# EAGLE library part STM32F4-176_PIN (library p.peter-ics)
STM32F417 Basic layout
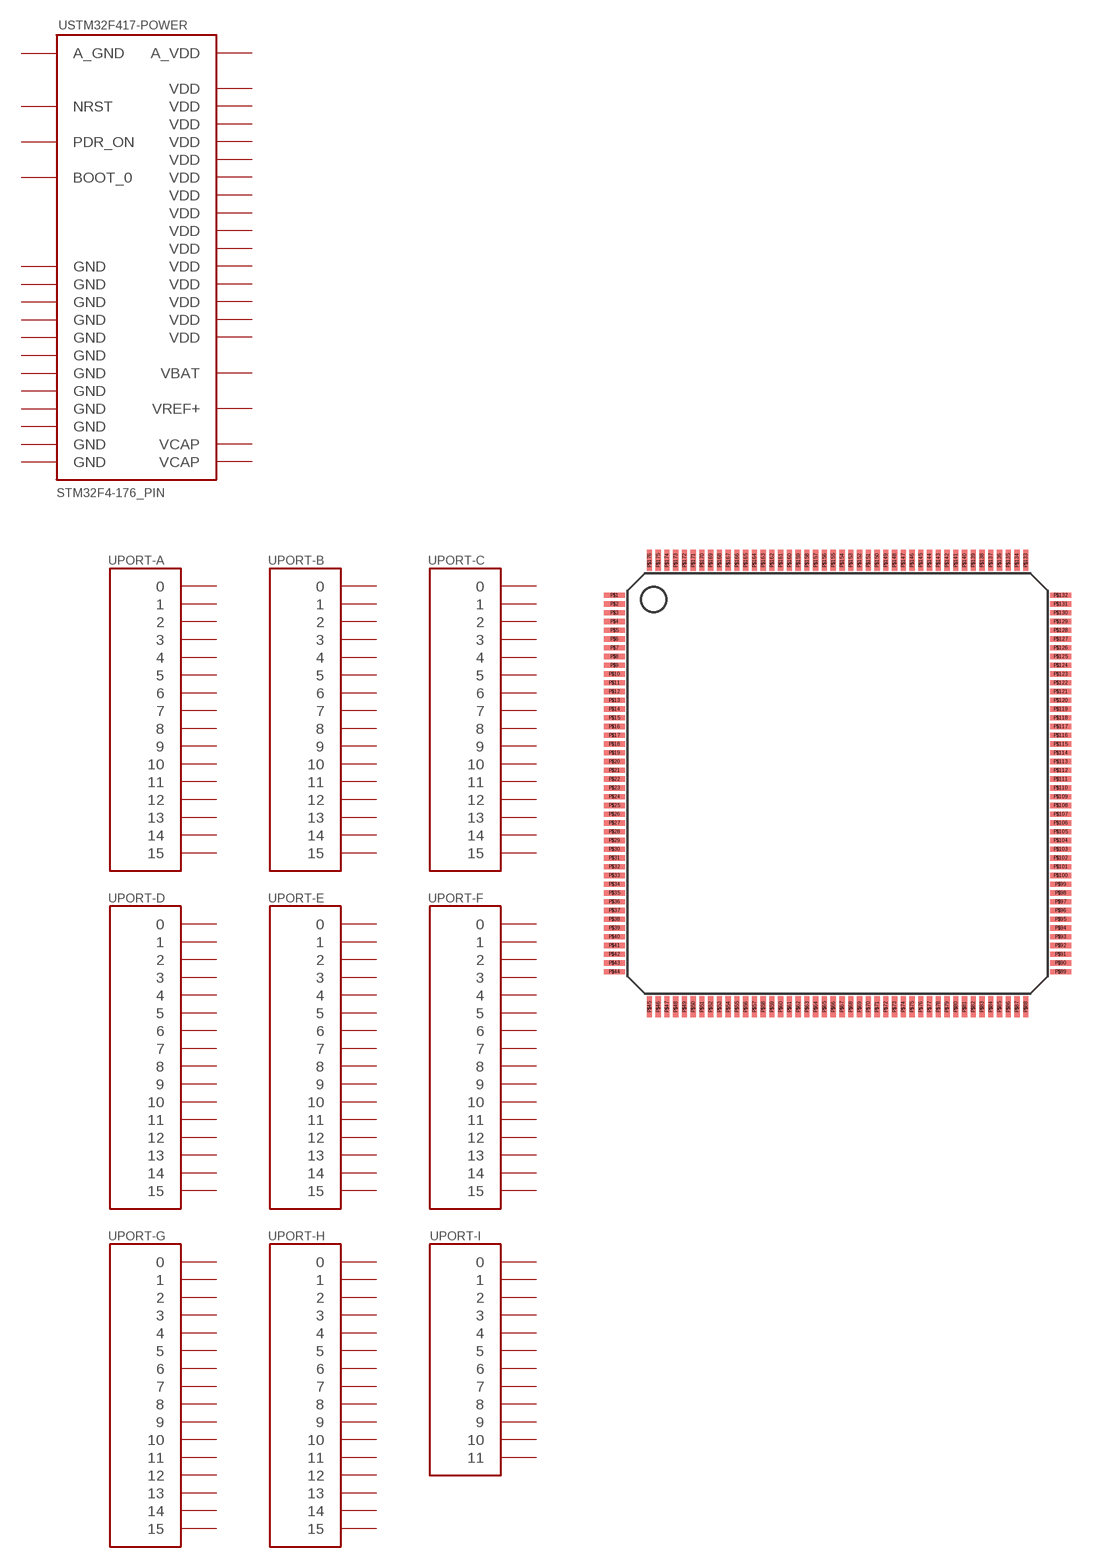
[diagram p3: symbol with the pads of LQFP176; footprint LQFP176]

Designator prefix -; gates STM32F417-POWER=STM32F417-POWER-DEPRECATED PORT-A=STM32-PORT PORT-B=STM32-PORT PORT-C=STM32-PORT PORT-D=STM32-PORT PORT-E=STM32-PORT PORT-F=STM32-PORT PORT-G=STM32-PORT PORT-H=STM32-PORT PORT-I=STM32-PORT_12

## STM32F4-176_PINLQFP176  [LQFP176]
P$1  PORT-E:2
P$2  PORT-E:3
P$3  PORT-E:4
P$4  PORT-E:5
P$5  PORT-E:6
P$6  STM32F417-POWER:VBAT  pwr
P$7  PORT-I:8
P$8  PORT-C:13
P$9  PORT-C:14
P$10  PORT-C:15
P$11  PORT-I:9
P$12  PORT-I:10
P$13  PORT-I:11
P$14  STM32F417-POWER:GND  pwr
P$15  STM32F417-POWER:VDD  pwr
P$16  PORT-F:0
P$17  PORT-F:1
P$18  PORT-F:2
P$19  PORT-F:3
P$20  PORT-F:4
P$21  PORT-F:5
P$22  STM32F417-POWER:GND  pwr
P$23  STM32F417-POWER:VDD  pwr
P$24  PORT-F:6
P$25  PORT-F:7
P$26  PORT-F:8
P$27  PORT-F:9
P$28  PORT-F:10
P$29  PORT-H:0
P$30  PORT-H:1
P$31  STM32F417-POWER:NRST
P$32  PORT-C:0
P$33  PORT-C:1
P$34  PORT-C:2
P$35  PORT-C:3
P$36  STM32F417-POWER:VDD  pwr
P$37  STM32F417-POWER:A_GND  pwr
P$38  STM32F417-POWER:VREF+  pwr
P$39  STM32F417-POWER:A_VDD  pwr
P$40  PORT-A:0
P$41  PORT-A:1
P$42  PORT-A:2
P$43  PORT-H:2
P$44  PORT-H:3
P$45  PORT-H:4
P$46  PORT-H:5
P$47  PORT-A:3
P$48  STM32F417-POWER:GND  pwr
P$49  STM32F417-POWER:VDD  pwr
P$50  PORT-A:4
P$51  PORT-A:5
P$52  PORT-A:6
P$53  PORT-A:7
P$54  PORT-C:4
P$55  PORT-C:5
P$56  PORT-B:0
P$57  PORT-B:1
P$58  PORT-B:2
P$59  PORT-F:11
P$60  PORT-F:12
P$61  STM32F417-POWER:GND  pwr
P$62  STM32F417-POWER:VDD  pwr
P$63  PORT-F:13
P$64  PORT-F:14
P$65  PORT-F:15
P$66  PORT-G:0
P$67  PORT-G:1
P$68  PORT-E:7
P$69  PORT-E:8
P$70  PORT-E:9
P$71  STM32F417-POWER:GND  pwr
P$72  STM32F417-POWER:VDD  pwr
P$73  PORT-E:10
P$74  PORT-E:11
P$75  PORT-E:12
P$76  PORT-E:13
P$77  PORT-E:14
P$78  PORT-E:15
P$79  PORT-B:10
P$80  PORT-B:11
P$81  STM32F417-POWER:VCAP  pwr
P$82  STM32F417-POWER:VDD  pwr
P$83  PORT-H:6
P$84  PORT-H:7
P$85  PORT-H:8
P$86  PORT-H:9
P$87  PORT-H:10
P$88  PORT-H:11
P$89  PORT-H:12
P$90  STM32F417-POWER:GND  pwr
P$91  STM32F417-POWER:VDD  pwr
P$92  PORT-B:12
P$93  PORT-B:13
P$94  PORT-B:14
P$95  PORT-B:15
P$96  PORT-D:8
P$97  PORT-D:9
P$98  PORT-D:10
P$99  PORT-D:11
P$100  PORT-D:12
P$101  PORT-D:13
P$102  STM32F417-POWER:GND  pwr
P$103  STM32F417-POWER:VDD  pwr
P$104  PORT-D:14
P$105  PORT-D:15
P$106  PORT-G:2
P$107  PORT-G:3
P$108  PORT-G:4
P$109  PORT-G:5
P$110  PORT-G:6
P$111  PORT-G:7
P$112  PORT-G:8
P$113  STM32F417-POWER:GND  pwr
P$114  STM32F417-POWER:VDD  pwr
P$115  PORT-C:6
P$116  PORT-C:7
P$117  PORT-C:8
P$118  PORT-C:9
P$119  PORT-A:8
P$120  PORT-A:9
P$121  PORT-A:10
P$122  PORT-A:11
P$123  PORT-A:12
P$124  PORT-A:13
P$125  STM32F417-POWER:VCAP  pwr
P$126  STM32F417-POWER:GND  pwr
P$127  STM32F417-POWER:VDD  pwr
P$128  PORT-H:13
P$129  PORT-H:14
P$130  PORT-H:15
P$131  PORT-I:0
P$132  PORT-I:1
P$133  PORT-I:2
P$134  PORT-I:3
P$135  STM32F417-POWER:GND  pwr
P$136  STM32F417-POWER:VDD  pwr
P$137  PORT-A:14
P$138  PORT-A:15
P$139  PORT-C:10
P$140  PORT-C:11
P$141  PORT-C:12
P$142  PORT-D:0
P$143  PORT-D:1
P$144  PORT-D:2
P$145  PORT-D:3
P$146  PORT-D:4
P$147  PORT-D:5
P$148  STM32F417-POWER:GND  pwr
P$149  STM32F417-POWER:VDD  pwr
P$150  PORT-D:6
P$151  PORT-D:7
P$152  PORT-G:9
P$153  PORT-G:10
P$154  PORT-G:11
P$155  PORT-G:12
P$156  PORT-G:13
P$157  PORT-G:14
P$158  STM32F417-POWER:GND  pwr
P$159  STM32F417-POWER:VDD  pwr
P$160  PORT-G:15
P$161  PORT-B:3
P$162  PORT-B:4
P$163  PORT-B:5
P$164  PORT-B:6
P$165  PORT-B:7
P$166  STM32F417-POWER:BOOT_0
P$167  PORT-B:8
P$168  PORT-B:9
P$169  PORT-E:0
P$170  PORT-E:1
P$171  STM32F417-POWER:PDR_ON
P$172  STM32F417-POWER:VDD  pwr
P$173  PORT-I:4
P$174  PORT-I:5
P$175  PORT-I:6
P$176  PORT-I:7

## Footprint LQFP176 (pad centres in mm)
Standard LQFP176 footprint from STM32F417 Datasheet
smd 1.2 x 0.3: P$1 -12.75,10.75; P$2 -12.75,10.25; P$3 -12.75,9.75; P$4 -12.75,9.25; P$5 -12.75,8.75; P$6 -12.75,8.25; P$7 -12.75,7.75; P$8 -12.75,7.25; P$9 -12.75,6.75; P$10 -12.75,6.25; P$11 -12.75,5.75; P$12 -12.75,5.25; P$13 -12.75,4.75; P$14 -12.75,4.25; P$15 -12.75,3.75; P$16 -12.75,3.25; P$17 -12.75,2.75; P$18 -12.75,2.25; P$19 -12.75,1.75; P$20 -12.75,1.25; P$21 -12.75,0.75; P$22 -12.75,0.25; P$23 -12.75,-0.25; P$24 -12.75,-0.75; P$25 -12.75,-1.25; P$26 -12.75,-1.75; P$27 -12.75,-2.25; P$28 -12.75,-2.75; P$29 -12.75,-3.25; P$30 -12.75,-3.75; P$31 -12.75,-4.25; P$32 -12.75,-4.75; P$33 -12.75,-5.25; P$34 -12.75,-5.75; P$35 -12.75,-6.25; P$36 -12.75,-6.75; P$37 -12.75,-7.25; P$38 -12.75,-7.75; P$39 -12.75,-8.25; P$40 -12.75,-8.75; P$41 -12.75,-9.25; P$42 -12.75,-9.75; P$43 -12.75,-10.25; P$44 -12.75,-10.75; P$89 12.75,-10.75; P$90 12.75,-10.25; P$91 12.75,-9.75; P$92 12.75,-9.25; P$93 12.75,-8.75; P$94 12.75,-8.25; P$95 12.75,-7.75; P$96 12.75,-7.25; P$97 12.75,-6.75; P$98 12.75,-6.25; P$99 12.75,-5.75; P$100 12.75,-5.25; P$101 12.75,-4.75; P$102 12.75,-4.25; P$103 12.75,-3.75; P$104 12.75,-3.25; P$105 12.75,-2.75; P$106 12.75,-2.25; P$107 12.75,-1.75; P$108 12.75,-1.25; P$109 12.75,-0.75; P$110 12.75,-0.25; P$111 12.75,0.25; P$112 12.75,0.75; P$113 12.75,1.25; P$114 12.75,1.75; P$115 12.75,2.25; P$116 12.75,2.75; P$117 12.75,3.25; P$118 12.75,3.75; P$119 12.75,4.25; P$120 12.75,4.75; P$121 12.75,5.25; P$122 12.75,5.75; P$123 12.75,6.25; P$124 12.75,6.75; P$125 12.75,7.25; P$126 12.75,7.75; P$127 12.75,8.25; P$128 12.75,8.75; P$129 12.75,9.25; P$130 12.75,9.75; P$131 12.75,10.25; P$132 12.75,10.75
smd 0.3 x 1.2: P$45 -10.75,-12.75; P$46 -10.25,-12.75; P$47 -9.75,-12.75; P$48 -9.25,-12.75; P$49 -8.75,-12.75; P$50 -8.25,-12.75; P$51 -7.75,-12.75; P$52 -7.25,-12.75; P$53 -6.75,-12.75; P$54 -6.25,-12.75; P$55 -5.75,-12.75; P$56 -5.25,-12.75; P$57 -4.75,-12.75; P$58 -4.25,-12.75; P$59 -3.75,-12.75; P$60 -3.25,-12.75; P$61 -2.75,-12.75; P$62 -2.25,-12.75; P$63 -1.75,-12.75; P$64 -1.25,-12.75; P$65 -0.75,-12.75; P$66 -0.25,-12.75; P$67 0.25,-12.75; P$68 0.75,-12.75; P$69 1.25,-12.75; P$70 1.75,-12.75; P$71 2.25,-12.75; P$72 2.75,-12.75; P$73 3.25,-12.75; P$74 3.75,-12.75; P$75 4.25,-12.75; P$76 4.75,-12.75; P$77 5.25,-12.75; P$78 5.75,-12.75; P$79 6.25,-12.75; P$80 6.75,-12.75; P$81 7.25,-12.75; P$82 7.75,-12.75; P$83 8.25,-12.75; P$84 8.75,-12.75; P$85 9.25,-12.75; P$86 9.75,-12.75; P$87 10.25,-12.75; P$88 10.75,-12.75; P$133 10.75,12.75; P$134 10.25,12.75; P$135 9.75,12.75; P$136 9.25,12.75; P$137 8.75,12.75; P$138 8.25,12.75; P$139 7.75,12.75; P$140 7.25,12.75; P$141 6.75,12.75; P$142 6.25,12.75; P$143 5.75,12.75; P$144 5.25,12.75; P$145 4.75,12.75; P$146 4.25,12.75; P$147 3.75,12.75; P$148 3.25,12.75; P$149 2.75,12.75; P$150 2.25,12.75; P$151 1.75,12.75; P$152 1.25,12.75; P$153 0.75,12.75; P$154 0.25,12.75; P$155 -0.25,12.75; P$156 -0.75,12.75; P$157 -1.25,12.75; P$158 -1.75,12.75; P$159 -2.25,12.75; P$160 -2.75,12.75; P$161 -3.25,12.75; P$162 -3.75,12.75; P$163 -4.25,12.75; P$164 -4.75,12.75; P$165 -5.25,12.75; P$166 -5.75,12.75; P$167 -6.25,12.75; P$168 -6.75,12.75; P$169 -7.25,12.75; P$170 -7.75,12.75; P$171 -8.25,12.75; P$172 -8.75,12.75; P$173 -9.25,12.75; P$174 -9.75,12.75; P$175 -10.25,12.75; P$176 -10.75,12.75